# Altium schematic symbol library SCH - POWER - LINEAR VREG - TI TPS74701-Q1_DRC_10.SchLib: 1 symbol
Pins are listed as number, name and electrical type; pins without a type are passive.

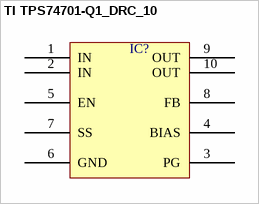
[diagram p0: symbol TI TPS74701-Q1_DRC_10]

## TI TPS74701-Q1_DRC_10
designator IC?  (value not drawn)
pins: 1 IN, 2 IN, 3 PG, 4 BIAS, 5 EN, 6 GND, 7 SS, 8 FB, 9 OUT, 10 OUT